# Altium schematic symbol library Ampseal.SchLib: 1 symbol
Pins are listed as number, name and electrical type; pins without a type are passive.

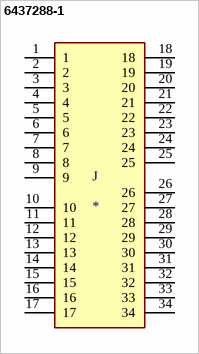
[diagram p0: symbol 6437288-1]

## 6437288-1
designator J
34 Position 4 Row Right Angle Receptacle Through Hole Super Seal Cap Assy; MP: 6437288-1; MF: TE Connectivity; Price: None; SnapEDA_Link: https://www.snapeda.com/parts/6437288-1/TE%20Connectivity%20AMP%20Connectors/view-part/1468495/?ref=snap; Package: None; Availability: Unavailable; Value: *
footprint TE_6437288-1
pins: 1, 2, 3, 4, 5, 6, 7, 8, 9, 10, 11, 12, 13, 14, 15, 16, 17, 18, 19, 20, 21, 22, 23, 24, 25, 26, 27, 28, 29, 30, 31, 32, 33, 34